# Altium footprint library RF Connector.PcbLib: 18 footprints (part 2 of 2)
Each footprint in its own frame and in the unit in brackets; x right, y up, seen from the top. Pads: shape width x height; smd on the part's side, far side on the other; paste and mask are expansions set on the pad; w line width, h text height; cw(c..) or ccw(c..) is an arc to the next point about the centre after c.
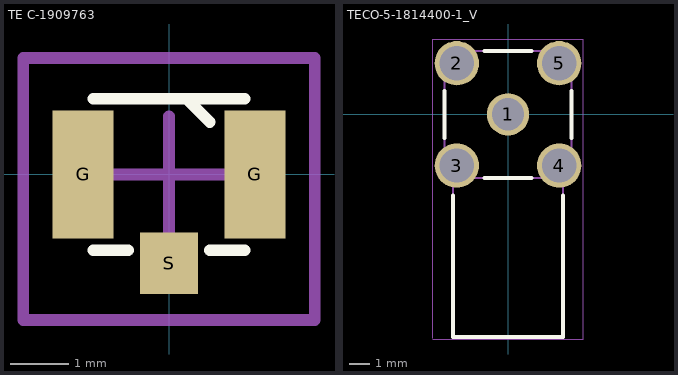
[diagram p1: the footprints below, top view; thin cyan lines are the x and y axes]

## TE C-1909763 [mm]
height 1.25
pads (3):
  rect 1.05x2.2 smd: G(-1.475,0) G(1.475,0)
  rect 1x1.05 smd: S(0,-1.525)
Top Overlay:
  lines w0.2: -1.3,-1.3 -0.7,-1.3 ; -1.3,1.3 1.3,1.3 ; 0.3,1.3 0.7,0.9 ; 0.7,-1.3 1.3,-1.3
Mechanical 15:
  lines w0.2: -1,0 1,0 ; 0,-1 0,1 ; -2.5,-2.5 2.5,-2.5 2.5,2 -2.5,2 -2.5,-2.5
3D body "TE 1909763-1.STEP": height 1.23, standoff 0, extent -1.5,-1.55 1.5,1.55

## TECO-5-1814400-1_V [mm] "SMA, 5-Leads, Body 6.3x6.3mm, Pitch 5.08mm"
height 13.53
pads (5):
  round 2.1 hole 1.6: 1(0,0)
  round 2.2 hole 1.7: 2(-2.54,2.54) 3(-2.54,-2.54) 4(2.54,-2.54) 5(2.54,2.54)
Top Overlay:
  lines w0.2: -3.15,-1.17 -3.15,1.17 ; -2.725,-4.029 -2.725,-11.05 2.725,-11.05 2.725,-4.029 ; -1.17,-3.15 1.17,-3.15 ; -1.17,3.15 1.17,3.15 ; 3.15,-1.17 3.15,1.17
Mechanical 13:
  lines w0.1: -3.15,-2.3 -2.3,-2.3 -2.3,-3.15 ; -3.15,2.3 -2.3,2.3 -2.3,3.15 ; -2.725,-3.15 -2.725,-11.05 2.725,-11.05 2.725,-3.15 ; 2.3,-3.15 2.3,-2.3 3.15,-2.3 ; 2.3,3.15 2.3,2.3 3.15,2.3 ; -3.15,-3.15 -3.15,3.15 3.15,3.15 3.15,-3.15 -3.15,-3.15
Mechanical 15:
  lines w0.05: -3.74,-11.15 3.74,-11.15 3.74,3.74 -3.74,3.74 -3.74,-11.124
  lines w0.1: -0.5,0 0.5,0 ; 0,-0.5 0,0.5
3D body: height 10.43, standoff 0.8, extent -3.15,-3.15 3.15,3.15
3D body: height 0.8, standoff -3.9, extent -0.475,-0.474 0.474,0.475
3D body: height 9.97, standoff 4.53, extent -2.725,-11.075 2.724,-3.175
3D body: height 0.8, standoff -3.9, extent -3.149,2.301 -2.301,3.149
3D body: height 0.8, standoff -3.9, extent 2.301,2.301 3.149,3.149
3D body: height 0.8, standoff -3.9, extent -3.149,-3.149 -2.301,-2.301
3D body: height 0.8, standoff -3.9, extent 2.3,-3.15 3.15,-2.3